# Altium footprint library Collection_Paimin.PcbLib: 48 footprints (part 2 of 3)
Each footprint in its own frame and in the unit in brackets; x right, y up, seen from the top. Pads: shape width x height; smd on the part's side, far side on the other; paste and mask are expansions set on the pad; w line width, h text height; cw(c..) or ccw(c..) is an arc to the next point about the centre after c.
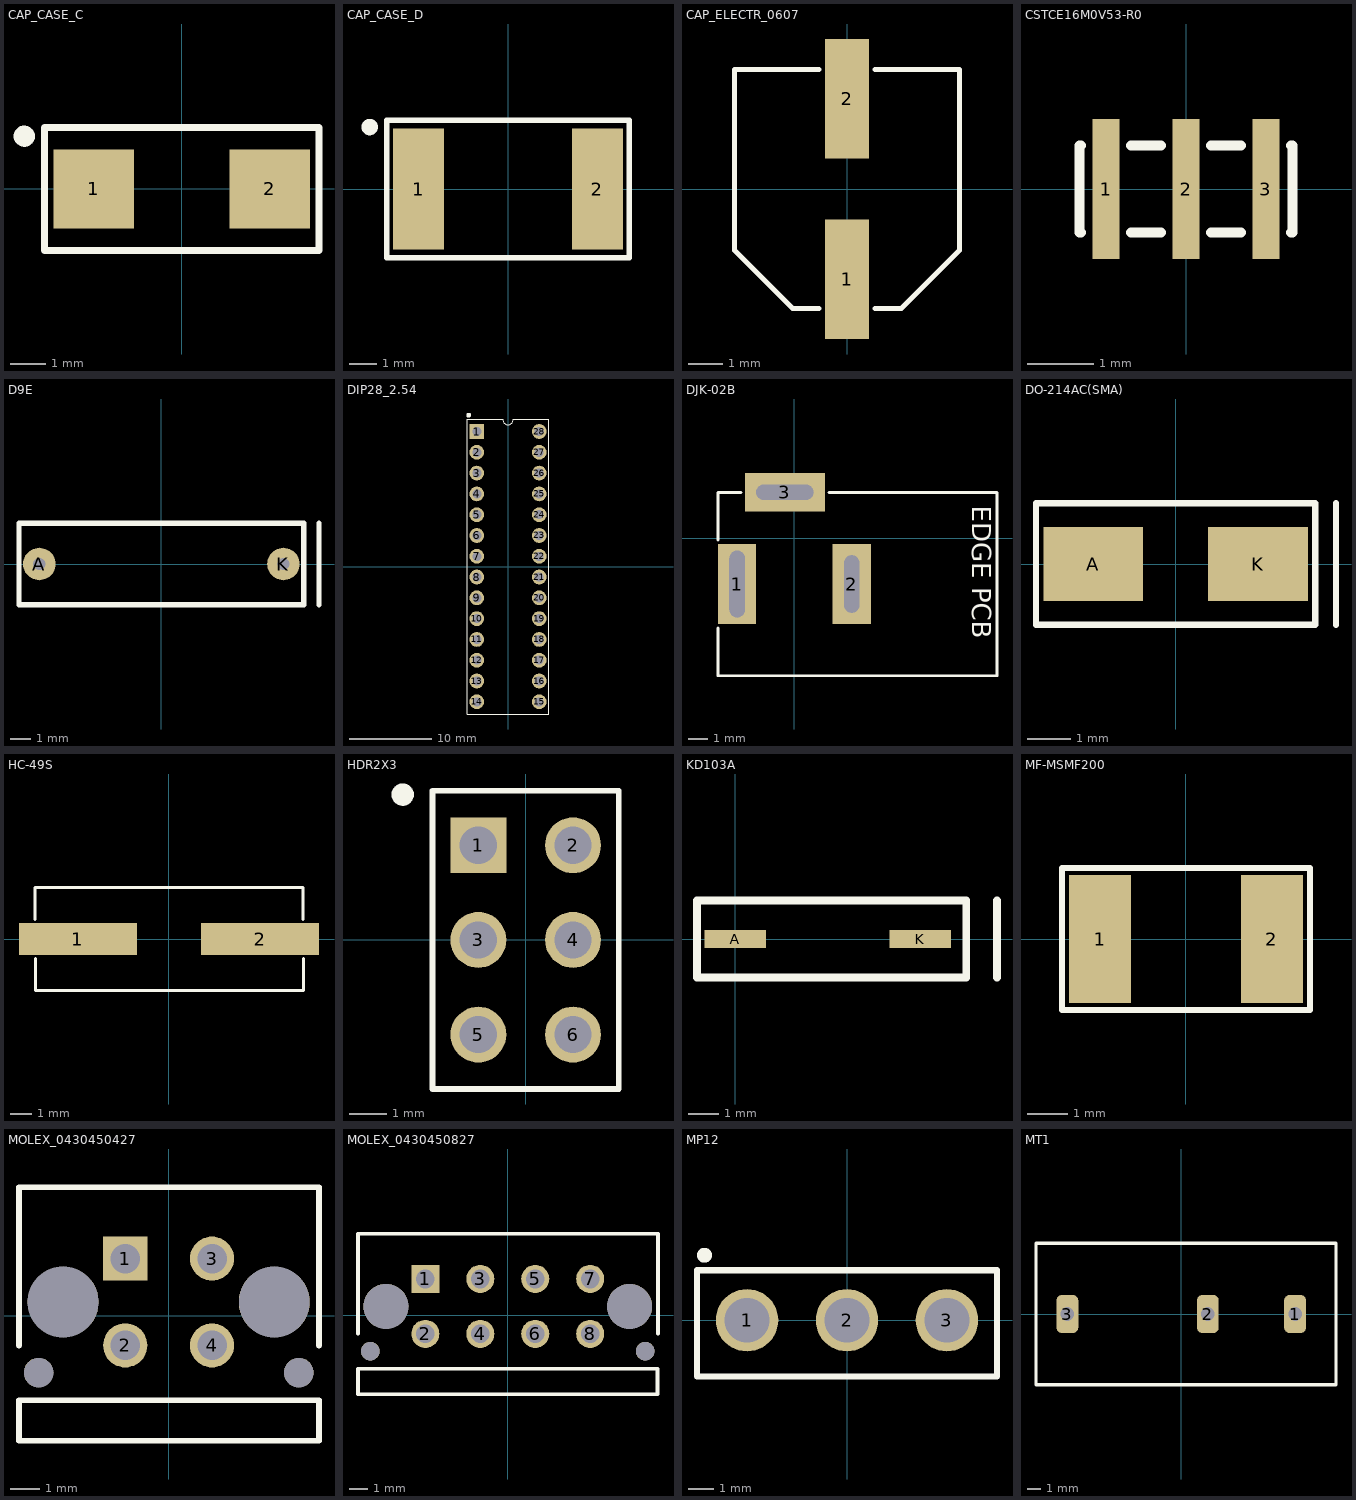
[diagram p1: the footprints below, top view; thin cyan lines are the x and y axes]

## CAP_CASE_C [mm]
height 2.5
pads (2):
  rect 2.3x2.25 smd: 1(-2.5,0) 2(2.5,0)
Top Overlay:
  circle w0.3: c-4.475,1.5 r0.15
  lines w0.2: -3.9,1.5 -3.9,-1.75 3.9,-1.75 3.9,1.5 ; -3.9,1.525 -3.9,1.75 3.9,1.75 3.9,1.525
3D body "CHIP_TANT_C.step": height 2.5, standoff 0, extent -3.37,-1.75 3.37,1.75

## CAP_CASE_D [mm]
height 2.8
pads (2):
  rect 1.85x4.4 smd: 1(-3.25,0) 2(3.25,0)
Top Overlay:
  circle w0.3: c-5.025,2.25 r0.15
  lines w0.2: -4.4,-2.5 -4.4,2.5 4.4,2.5 4.4,-2.5 -4.4,-2.5
3D body: height 2.8, standoff 0, extent -3.65,-2.15 -2.35,2.15
3D body: height 2.8, standoff 0, extent 2.35,-2.15 3.65,2.15
3D body: height 2.8, standoff 0, extent -2.35,-2.15 2.35,2.15

## CAP_ELECTR_0607 [mm]
height 5.4
pads (2):
  rect 1.3x3.5 smd: 1(0,-2.65) 2(0,2.65)
Top Overlay:
  lines w0.15: -0.825,-3.5 -1.6,-3.5 -3.3,-1.8 -3.3,3.5 -0.825,3.5 ; 0.825,-3.5 1.6,-3.5 3.3,-1.8 3.3,3.5 0.825,3.5
3D body "0607_electrolitic capacitor.step": height 8.11, standoff 0, extent -3.3,-3.5 3.3,3.5

## CSTCE16M0V53-R0 [mm]
height 1
pads (3):
  rect 0.4x2.1 smd: 1(-1.2,0) 2(0,0) 3(1.2,0)
Top Overlay:
  lines w0.15: -1.575,-0.65 -1.6,-0.65 -1.6,0.65 -1.575,0.65 ; -0.825,-0.65 -0.375,-0.65 ; -0.825,0.65 -0.375,0.65 ; 0.375,-0.65 0.825,-0.65 ; 0.375,0.65 0.825,0.65 ; 1.575,-0.65 1.6,-0.65 1.6,0.65 1.575,0.65
3D body "CSTCE16M0V53-R0.step": height 1.02, standoff -0.09, extent -1.6,-0.65 1.6,0.65

## D9E [mm]
pads (2):
  round 1.6 hole 0.6: A(-6,0) K(6,0)
Top Overlay:
  lines w0.254: 7.75,-2 7.75,2 ; -7,-2 -7,2 7,2 7,-2 -7,-2
3D body "d9e.stp": height 3.48, standoff -2.52, extent -6.15,-1.75 6.15,1.75

## DIP28_2.54 [mm]
pads (28):
  rect 1.8x1.8 hole 1.1: 1(-3.81,16.51)
  round 1.8 hole 1.1: 2(-3.81,13.97) 3(-3.81,11.43) 4(-3.81,8.89) 5(-3.81,6.35) 6(-3.81,3.81) 7(-3.81,1.27) 8(-3.81,-1.27) 9(-3.81,-3.81) 10(-3.81,-6.35) 11(-3.81,-8.89) 12(-3.81,-11.43) 13(-3.81,-13.97) 14(-3.81,-16.51) 15(3.81,-16.51) 16(3.81,-13.97) 17(3.81,-11.43) 18(3.81,-8.89) 19(3.81,-6.35) 20(3.81,-3.81) 21(3.81,-1.27) 22(3.81,1.27) 23(3.81,3.81) 24(3.81,6.35) 25(3.81,8.89) 26(3.81,11.43) 27(3.81,13.97) 28(3.81,16.51)
Top Overlay:
  circle w0.3: c-4.8,18.5 r0.15
  lines w0.15: -5,-18 -5,17.98 -0.635,17.98 ccw(c0,17.98) 0.635,17.98 5,17.98 5,-18 -5,-18
3D body "dil_socket.stp": height 2.9, standoff -4.47, extent -5.05,-17.75 5.05,17.75
3D body "28 pin dip.step": height 6.35, standoff 0.13, extent -3.937,-18.041 3.937,17.9

## DJK-02B [mm]
height 11
pads (3):
  rect 2x4.2 hole 0.8 slot 3.5 at 90 deg: 1(-3,-2.4)
  rect 2x4.2 hole 0.8 slot 3 at 90 deg: 2(3,-2.4)
  rect 4.2x2 hole 0.8 slot 3 at 0 deg: 3(-0.5,2.4)
Top Overlay:
  lines w0.15: -4,-4.7 -4,-7.2 10.6,-7.2 10.6,2.4 1.8,2.4 ; -4,-0.1 -4,2.4 -2.8,2.4
  text "EDGE PCB" at 9.3,1.7 h1
3D body "DJK-02B (DS-261A).step": height 11.1, standoff -3.4, extent -3.8,-6.8 10.6,2.5

## DO-214AC(SMA) [mm]
height 2.3
pads (2):
  rect 2.3x1.7 smd: A(-1.9,0) K(1.9,0)
Top Overlay:
  lines w0.15: 3.7,-1.4 3.7,1.4 ; -3.225,-1.4 -3.225,1.4 3.225,1.4 3.225,-1.4 -3.225,-1.4
3D body "DO-214AC(SMA).step": height 2.29, standoff 0.01, extent -2.743,-1.397 2.743,1.397

## HC-49S [mm]
height 4.2
pads (2):
  rect 5.5x1.5 smd: 1(-4.25,0) 2(4.25,0)
Top Overlay:
  lines w0.15: -6.25,0.925 -6.25,2.4 6.25,2.4 6.25,0.925 ; -6.225,-0.925 -6.225,-2.4 6.275,-2.4 6.275,-0.925
3D body "HC49-S.step": height 4.3, standoff 0, extent -6.4,-2.415 6.4,2.415

## HDR2X3 [mm]
height 8.5
pads (6):
  rect 1.5x1.5 hole 1 mask+0.09: 1(-1.27,2.54)
  round 1.5 hole 1 mask+0.09: 2(1.27,2.54) 3(-1.27,0) 4(1.27,0) 5(-1.27,-2.54) 6(1.27,-2.54)
Top Overlay:
  circle w0.3: c-3.3,3.9 r0.15
  lines w0.15: -2.5,-4 2.5,-4 2.5,4 -2.5,4 -2.5,-4
3D body "PLD-6.step": height 8.6, standoff -2.9, extent -2.4,-3.78 2.6,3.84

## KD103A [mm]
height 2.3
pads (2):
  rect 2x0.6 smd: A(0,0) K(6,0)
Top Overlay:
  lines w0.254: 8.5,-1.25 8.5,1.25 ; -1.25,-1.25 7.5,-1.25 7.5,1.25 -1.25,1.25 -1.25,-1.25
3D body "kd103a.stp": height 2.2, standoff -0.03, extent -0.5,-1 6.5,0.99

## MF-MSMF200 [mm]
height 1
pads (2):
  rect 1.55x3.2 smd: 1(-2.15,0) 2(2.15,0)
Top Overlay:
  lines w0.15: -3.1,-1.775 3.1,-1.775 3.1,1.775 -3.1,1.775 -3.1,-1.775
3D body "MF-MSMF200.stp": height 0.85, standoff 0, extent -2.275,-1.62 2.275,1.62

## MOLEX_0430450427 [mm]
pads (8):
  rect 1.53x1.53 hole 1.02: 1(-1.5,1.97)
  round 1.53 hole 1.02: 2(-1.5,-1.03) 3(1.5,1.97) 4(1.5,-1.03)
  round 1.02 hole 1.02 unplated mask+0: ""(-4.5,-1.97) ""(4.5,-1.97)
  round 2.45 / inner rrect50% 2.4x1 / far side round 2.45 hole 2.45 unplated mask+0: ""(-3.65,0.47) ""(3.65,0.47)
Top Overlay:
  lines w0.2: -5.175,-1.03 -5.175,4.44 5.2,4.44 5.2,-1.03 ; -5.175,-4.33 5.2,-4.33 5.2,-2.93 -5.175,-2.93 -5.175,-4.33
3D body "430450425.stp": height 9.95, standoff -3.14, extent -5.075,-4.355 5.075,4.415

## MOLEX_0430450827 [mm]
pads (12):
  rect 1.53x1.53 hole 1.02: 1(-4.5,1.97)
  round 1.53 hole 1.02: 2(-4.5,-1.03) 3(-1.5,1.97) 4(-1.5,-1.03) 5(1.5,1.97) 6(1.5,-1.03) 7(4.5,1.97) 8(4.5,-1.03)
  round 1.02 hole 1.02 unplated: ""(-7.5,-1.97) ""(7.5,-1.97)
  round 2.45 / inner rrect50% 2.4x1 / far side round 2.45 hole 2.45 mask+0: ""(-6.65,0.47) ""(6.65,0.47)
Top Overlay:
  lines w0.2: -8.175,-1.03 -8.175,4.44 8.2,4.44 8.2,-1.03 ; -8.175,-4.33 8.175,-4.33 8.175,-2.93 -8.175,-2.93 -8.175,-4.33
3D body "430450825.stp": height 9.95, standoff -3.14, extent -8.075,-4.26 8.075,4.51

## MP12 [mm]
height 9.2
pads (3):
  round 2.5 / inner round 1.6 / far side round 2.5 hole 1.8: 1(-4,0) 2(0,0) 3(4,0)
Top Overlay:
  circle w0.3: c-5.7,2.6 r0.15
  lines w0.254: -6,-2.25 6,-2.25 6,2 -6,2 -6,-2.25
3D body "mp12.stp": height 7.5, standoff -1.7, extent -6,-2.25 6,2.25

## MT1 [mm]
height 37
pads (3):
  rrect50% 1.6x2.8 / inner round 1.6 / far side rrect50% 1.6x2.8 hole 1 square: 1(8.35,0) 2(1.95,0) 3(-8.35,0)
Top Overlay:
  lines w0.254: -10.65,-5.2 11.35,-5.2 11.35,5.2 -10.65,5.2 -10.65,0 -10.65,-5.2
3D body "pdm1-1m.stp": height 33.5, standoff -3.5, extent -10.6,-5.65 11.4,5.65